# Altium schematic symbol library FOC_DRV8323.SchLib: 15 symbols
Pins are listed as number, name and electrical type; pins without a type are passive.

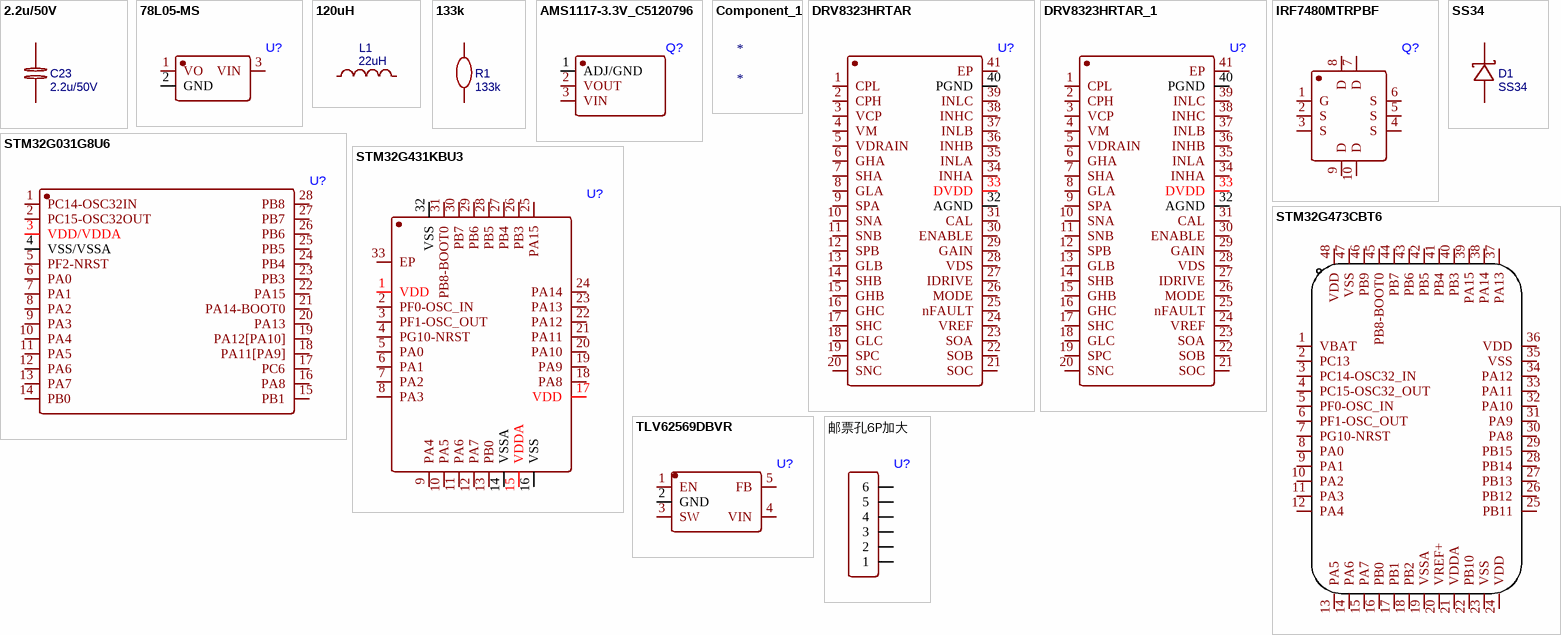
[diagram p0: symbols 2.2u/50V to 邮票孔6P加大]

## 2.2u/50V
designator C23
BOM_Manufacturer Part: GRM188R61H225KE11D; BOM_Manufacturer: Murata Electronics; nameAlias: Value(F); spicePre: C; spiceSymbolName: Cap_0603_EU; BOM_Supplier Part: C162273; BOM_Supplier: LCSC
footprint C0603
footprint c0402
pins: 1, 2

## 78L05-MS
designator U?
footprint SOT-89-3_L4.5-W2.5-P1.50-LS4.2-BR
pins: 1 VO, 2 GND, 3 VIN

## 120uH
designator L1, comment 22uH
BOM_Manufacturer: Changjiang Microelectronics Tech; BOM_Manufacturer Part: FNR6045S121MT; nameAlias: Inductance; Contributor: LCSC; BOM_Supplier: LCSC; BOM_Supplier Part: C168096; spicePre: L; spiceSymbolName: CKCS6028-22UH/M
footprint IND-SMD_L6.0-W6.0
pins: 1, 2

## 133k
designator R1
BOM_Manufacturer Part: AC0603FR-07133KL; BOM_Manufacturer: YAGEO; nameAlias: Value(Ω); spicePre: R; spiceSymbolName: Res_0603(1/10W)_EU; BOM_Supplier: LCSC; BOM_Supplier Part: C227577
footprint R0603
footprint R0402 (1/16W)
pins: 1, 2

## AMS1117-3.3V_C5120796
designator Q?
footprint SOT-89-3_L4.5-W2.5-P1.50-LS4.2-BR
pins: 1 ADJ/GND, 2 VOUT, 3 VIN

## Component_1
designator *

## DRV8323HRTAR
designator U?
footprint QFN-40_L6.0-W6.0-P0.50-BL-EP4.5
pins: 1 CPL, 2 CPH, 3 VCP, 4 VM, 5 VDRAIN, 6 GHA, 7 SHA, 8 GLA, 9 SPA, 10 SNA, 11 SNB, 12 SPB, 13 GLB, 14 SHB, 15 GHB, 16 GHC, 17 SHC, 18 GLC, 19 SPC, 20 SNC, 21 SOC, 22 SOB, 23 SOA, 24 VREF, 25 nFAULT, 26 MODE, 27 IDRIVE, 28 VDS, 29 GAIN, 30 ENABLE, 31 CAL, 32 AGND, 33 DVDD, 34 INHA, 35 INLA, 36 INHB, 37 INLB, 38 INHC, 39 INLC, 40 PGND, 41 EP

## DRV8323HRTAR_1
designator U?
footprint QFN-40_L6.0-W6.0-P0.50-BL-EP4.5
pins: 1 CPL, 2 CPH, 3 VCP, 4 VM, 5 VDRAIN, 6 GHA, 7 SHA, 8 GLA, 9 SPA, 10 SNA, 11 SNB, 12 SPB, 13 GLB, 14 SHB, 15 GHB, 16 GHC, 17 SHC, 18 GLC, 19 SPC, 20 SNC, 21 SOC, 22 SOB, 23 SOA, 24 VREF, 25 nFAULT, 26 MODE, 27 IDRIVE, 28 VDS, 29 GAIN, 30 ENABLE, 31 CAL, 32 AGND, 33 DVDD, 34 INHA, 35 INLA, 36 INHB, 37 INLB, 38 INHC, 39 INLC, 40 PGND, 41 EP

## IRF7480MTRPBF
designator Q?
footprint TRS-SMD_IRF7480MTRPBF
pins: 1 G, 2 S, 3 S, 4 S, 5 S, 6 S, 7 D, 8 D, 9 D, 10 D

## SS34
designator D1
BOM_Manufacturer: Yenji; Contributor: LCSC; BOM_Supplier: LCSC; BOM_Manufacturer Part: SS34; BOM_Supplier Part: C142458; spicePre: D
footprint SMA_L4.4-W2.8-LS5.4-RD
pins: 1 K, 2 A

## STM32G031G8U6
designator U?
footprint UFQFPN-28_L4.0-W4.0-P0.50-BL
pins: 1 PC14-OSC32IN, 2 PC15-OSC32OUT, 3 VDD/VDDA, 4 VSS/VSSA, 5 PF2-NRST, 6 PA0, 7 PA1, 8 PA2, 9 PA3, 10 PA4, 11 PA5, 12 PA6, 13 PA7, 14 PB0, 15 PB1, 16 PA8, 17 PC6, 18 PA11[PA9], 19 PA12[PA10], 20 PA13, 21 PA14-BOOT0, 22 PA15, 23 PB3, 24 PB4, 25 PB5, 26 PB6, 27 PB7, 28 PB8

## STM32G431KBU3
designator U?
footprint UFQFPN-32_L5.0-W5.0-P0.50-BL-EP3.5
pins: 1 VDD, 2 PF0-OSC_IN, 3 PF1-OSC_OUT, 4 PG10-NRST, 5 PA0, 6 PA1, 7 PA2, 8 PA3, 9 PA4, 10 PA5, 11 PA6, 12 PA7, 13 PB0, 14 VSSA, 15 VDDA, 16 VSS, 17 VDD, 18 PA8, 19 PA9, 20 PA10, 21 PA11, 22 PA12, 23 PA13, 24 PA14, 25 PA15, 26 PB3, 27 PB4, 28 PB5, 29 PB6, 30 PB7, 31 PB8-BOOT0, 32 VSS, 33 EP

## STM32G473CBT6
designator U1  (value not drawn)
Manufacturer: ST(意法半导体); Add into BOM: yes; Symbol: STM32G473CBT6; Device: STM32G473CBT6; Supplier: LCSC; Supplier Part: C730111; Manufacturer Part: STM32G473CBT6; JLCPCB Part Class: Extended Part; LCSC Part Name: STM32G473CBT6; Supplier Footprint: LQFP-48(7x7); Datasheet: https://atta.szlcsc.com/upload/public/pdf/source/20200902/C730111_19331807E2800E1C1C13BFFAAC550E20.pdf; Convert to PCB: yes
footprint LQFP-48
pins: 1 VBAT, 2 PC13, 3 PC14-OSC32_IN, 4 PC15-OSC32_OUT, 5 PF0-OSC_IN, 6 PF1-OSC_OUT, 7 PG10-NRST, 8 PA0, 9 PA1, 10 PA2, 11 PA3, 12 PA4, 13 PA5, 14 PA6, 15 PA7, 16 PB0, 17 PB1, 18 PB2, 19 VSSA, 20 VREF+, 21 VDDA, 22 PB10, 23 VSS, 24 VDD, 25 PB11, 26 PB12, 27 PB13, 28 PB14, 29 PB15, 30 PA8, 31 PA9, 32 PA10, 33 PA11, 34 PA12, 35 VSS, 36 VDD, 37 PA13, 38 PA14, 39 PA15, 40 PB3, 41 PB4, 42 PB5, 43 PB6, 44 PB7, 45 PB8-BOOT0, 46 PB9, 47 VSS, 48 VDD

## TLV62569DBVR
designator U?
footprint SOT-23-5_L3.0-W1.7-P0.95-LS2.8-BR
pins: 1 EN, 2 GND, 3 SW, 4 VIN, 5 FB

## 邮票孔6P加大
designator U?
footprint 邮票孔6P加大
pins: 1 6, 2 5, 3 4, 4 3, 5 2, 6 1